# Altium schematic symbol library SCH - MCU - ATSAM - MICROCHIP ATSAMA5D28C-CN LFBGA289.SchLib: 1 symbol
Pins are listed as number, name and electrical type; pins without a type are passive.

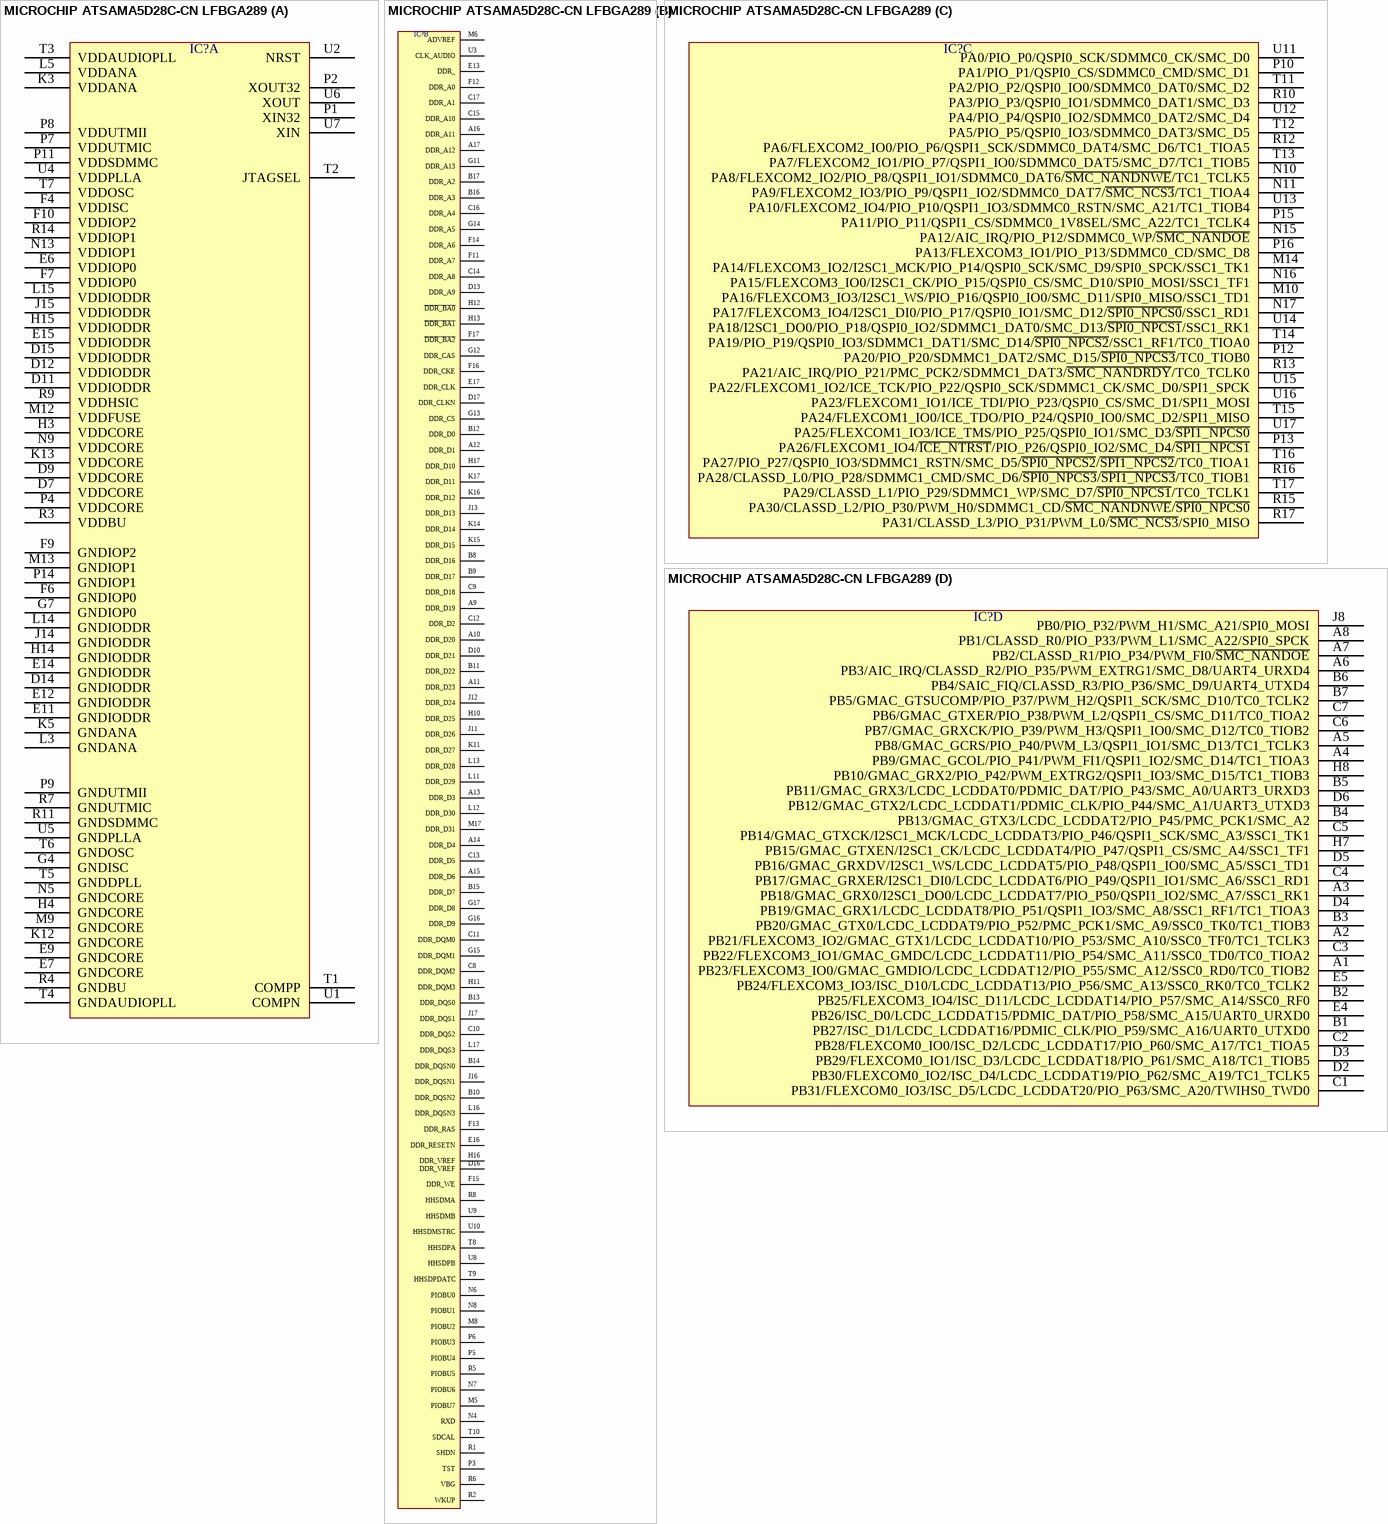
[diagram p0: symbol MICROCHIP ATSAMA5D28C-CN LFBGA289]

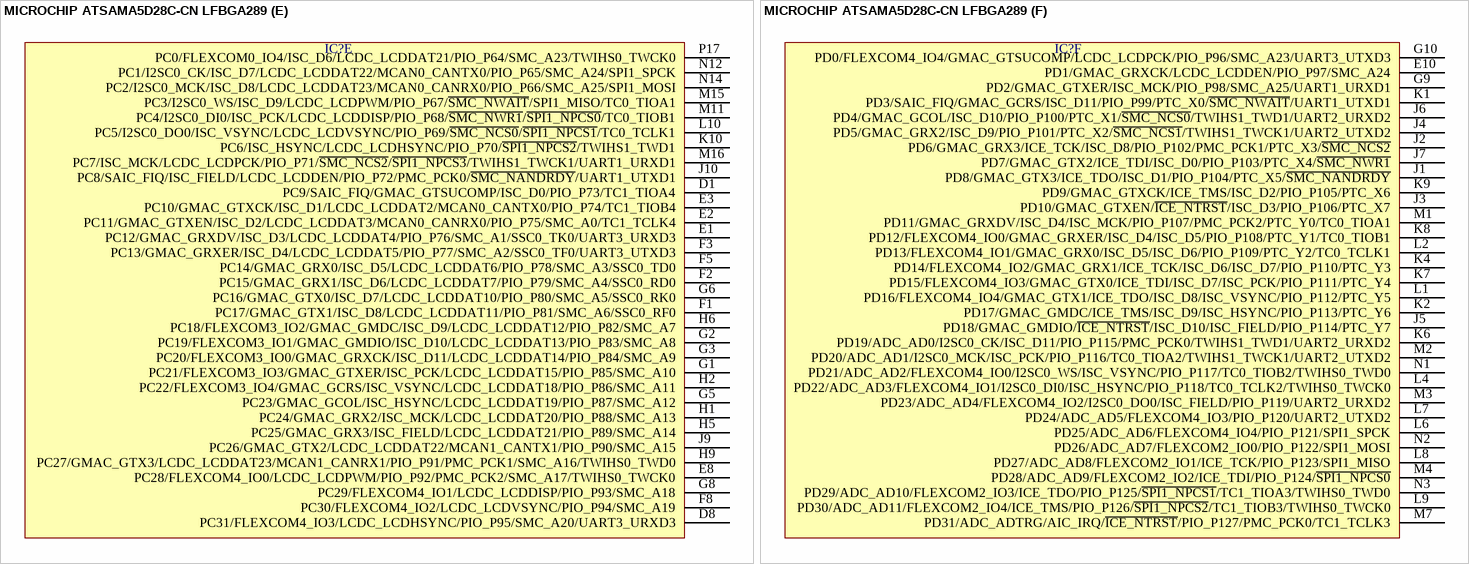
[diagram p1: symbol MICROCHIP ATSAMA5D28C-CN LFBGA289]

## MICROCHIP ATSAMA5D28C-CN LFBGA289
designator IC?  (value not drawn)
part A pins: D7 VDDCORE, D9 VDDCORE, D11 VDDIODDR, D12 VDDIODDR, D14 GNDIODDR, D15 VDDIODDR, E6 VDDIOP0, E7 GNDCORE, E9 GNDCORE, E11 GNDIODDR, E12 GNDIODDR, E14 GNDIODDR, E15 VDDIODDR, F4 VDDISC, F6 GNDIOP0, F7 VDDIOP0, F9 GNDIOP2, F10 VDDIOP2, G4 GNDISC, G7 GNDIOP0, H3 VDDCORE, H4 GNDCORE, H14 GNDIODDR, H15 VDDIODDR, J14 GNDIODDR, J15 VDDIODDR, K3 VDDANA, K5 GNDANA, K12 GNDCORE, K13 VDDCORE, L3 GNDANA, L5 VDDANA, L14 GNDIODDR, L15 VDDIODDR, M9 GNDCORE, M12 VDDFUSE, M13 GNDIOP1, N5 GNDCORE, N9 VDDCORE, N13 VDDIOP1, P1 XIN32, P2 XOUT32, P4 VDDCORE, P7 VDDUTMIC, P8 VDDUTMII, P9 GNDUTMII, P11 VDDSDMMC, P14 GNDIOP1, R3 VDDBU, R4 GNDBU, R7 GNDUTMIC, R9 VDDHSIC, R11 GNDSDMMC, R14 VDDIOP1, T1 COMPP, T2 JTAGSEL, T3 VDDAUDIOPLL, T4 GNDAUDIOPLL, T5 GNDDPLL, T6 GNDOSC, T7 VDDOSC, U1 COMPN, U2 NRST, U4 VDDPLLA, U5 GNDPLLA, U6 XOUT, U7 XIN
part B pins: A9 DDR_D19, A10 DDR_D20, A11 DDR_D23, A12 DDR_D1, A13 DDR_D3, A14 DDR_D4, A15 DDR_D6, A16 DDR_A11, A17 DDR_A12, B8 DDR_D16, B9 DDR_D17, B10 DDR_DQSN2, B11 DDR_D22, B12 DDR_D0, B13 DDR_DQS0, B14 DDR_DQSN0, B15 DDR_D7, B16 DDR_A3, B17 DDR_A2, C8 DDR_DQM2, C9 DDR_D18, C10 DDR_DQS2, C11 DDR_DQM0, C12 DDR_D2, C13 DDR_D5, C14 DDR_A8, C15 DDR_A10, C16 DDR_A4, C17 DDR_A1, D10 DDR_D21, D13 DDR_A9, D16 DDR_VREF, D17 DDR_CLKN, E13 DDR_, E16 DDR_RESETN, E17 DDR_CLK, F11 DDR_A7, F12 DDR_A0, F13 DDR_RAS, F14 DDR_A6, F15 DDR_WE, F16 DDR_CKE, F17 ~{DDR_BA2}, G11 DDR_A13, G12 DDR_CAS, G13 DDR_CS, G14 DDR_A5, G15 DDR_DQM1, G16 DDR_D9, G17 DDR_D8, H10 DDR_D25, H11 DDR_DQM3, H12 ~{DDR_BA0}, H13 ~{DDR_BA1}, H16 DDR_VREF, H17 DDR_D10, J11 DDR_D26, J12 DDR_D24, J13 DDR_D13, J16 DDR_DQSN1, J17 DDR_DQS1, K11 DDR_D27, K14 DDR_D14, K15 DDR_D15, K16 DDR_D12, K17 DDR_D11, L11 DDR_D29, L12 DDR_D30, L13 DDR_D28, L16 DDR_DQSN3, L17 DDR_DQS3, M5 PIOBU7, M6 ADVREF, M8 PIOBU2, M17 DDR_D31, N4 RXD, N6 PIOBU0, N7 PIOBU6, N8 PIOBU1, P3 TST, P5 PIOBU4, P6 PIOBU3, R1 SHDN, R2 WKUP, R5 PIOBU5, R6 VBG, R8 HHSDMA, T8 HHSDPA, T9 HHSDPDATC, T10 SDCAL, U3 CLK_AUDIO, U8 HHSDPB, U9 HHSDMB, U10 HHSDMSTRC
part C pins: M10 PA16/FLEXCOM3_IO3/I2SC1_WS/PIO_P16/QSPI0_IO0/SMC_D11/SPI0_MISO/SSC1_TD1, M14 PA14/FLEXCOM3_IO2/I2SC1_MCK/PIO_P14/QSPI0_SCK/SMC_D9/SPI0_SPCK/SSC1_TK1, N10 PA8/FLEXCOM2_IO2/PIO_P8/QSPI1_IO1/SDMMC0_DAT6/~{SMC_NANDNWE}/TC1_TCLK5, N11 PA9/FLEXCOM2_IO3/PIO_P9/QSPI1_IO2/SDMMC0_DAT7/~{SMC_NCS3}/TC1_TIOA4, N15 PA12/AIC_IRQ/PIO_P12/SDMMC0_WP/~{SMC_NANDOE}, N16 PA15/FLEXCOM3_IO0/I2SC1_CK/PIO_P15/QSPI0_CS/SMC_D10/SPI0_MOSI/SSC1_TF1, N17 PA17/FLEXCOM3_IO4/I2SC1_DI0/PIO_P17/QSPI0_IO1/SMC_D12/~{SPI0_NPCS0}/SSC1_RD1, P10 PA1/PIO_P1/QSPI0_CS/SDMMC0_CMD/SMC_D1, P12 PA20/PIO_P20/SDMMC1_DAT2/SMC_D15/~{SPI0_NPCS3}/TC0_TIOB0, P13 PA26/FLEXCOM1_IO4/~{ICE_NTRST}/PIO_P26/QSPI0_IO2/SMC_D4/~{SPI1_NPCS1}, P15 PA11/PIO_P11/QSPI1_CS/SDMMC0_1V8SEL/SMC_A22/TC1_TCLK4, P16 PA13/FLEXCOM3_IO1/PIO_P13/SDMMC0_CD/SMC_D8, R10 PA3/PIO_P3/QSPI0_IO1/SDMMC0_DAT1/SMC_D3, R12 PA6/FLEXCOM2_IO0/PIO_P6/QSPI1_SCK/SDMMC0_DAT4/SMC_D6/TC1_TIOA5, R13 PA21/AIC_IRQ/PIO_P21/PMC_PCK2/SDMMC1_DAT3/~{SMC_NANDRDY}/TC0_TCLK0, R15 PA30/CLASSD_L2/PIO_P30/PWM_H0/SDMMC1_CD/~{SMC_NANDNWE}/~{SPI0_NPCS0}, R16 PA28/CLASSD_L0/PIO_P28/SDMMC1_CMD/SMC_D6/~{SPI0_NPCS3}/~{SPI1_NPCS3}/TC0_TIOB1, R17 PA31/CLASSD_L3/PIO_P31/PWM_L0/~{SMC_NCS3}/SPI0_MISO, T11 PA2/PIO_P2/QSPI0_IO0/SDMMC0_DAT0/SMC_D2, T12 PA5/PIO_P5/QSPI0_IO3/SDMMC0_DAT3/SMC_D5, T13 PA7/FLEXCOM2_IO1/PIO_P7/QSPI1_IO0/SDMMC0_DAT5/SMC_D7/TC1_TIOB5, T14 PA19/PIO_P19/QSPI0_IO3/SDMMC1_DAT1/SMC_D14/~{SPI0_NPCS2}/SSC1_RF1/TC0_TIOA0, T15 PA24/FLEXCOM1_IO0/ICE_TDO/PIO_P24/QSPI0_IO0/SMC_D2/SPI1_MISO, T16 PA27/PIO_P27/QSPI0_IO3/SDMMC1_RSTN/SMC_D5/~{SPI0_NPCS2}/~{SPI1_NPCS2}/TC0_TIOA1, T17 PA29/CLASSD_L1/PIO_P29/SDMMC1_WP/SMC_D7/~{SPI0_NPCS1}/TC0_TCLK1, U11 PA0/PIO_P0/QSPI0_SCK/SDMMC0_CK/SMC_D0, U12 PA4/PIO_P4/QSPI0_IO2/SDMMC0_DAT2/SMC_D4, U13 PA10/FLEXCOM2_IO4/PIO_P10/QSPI1_IO3/SDMMC0_RSTN/SMC_A21/TC1_TIOB4, U14 PA18/I2SC1_DO0/PIO_P18/QSPI0_IO2/SDMMC1_DAT0/SMC_D13/~{SPI0_NPCS1}/SSC1_RK1, U15 PA22/FLEXCOM1_IO2/ICE_TCK/PIO_P22/QSPI0_SCK/SDMMC1_CK/SMC_D0/SPI1_SPCK, U16 PA23/FLEXCOM1_IO1/ICE_TDI/PIO_P23/QSPI0_CS/SMC_D1/SPI1_MOSI, U17 PA25/FLEXCOM1_IO3/ICE_TMS/PIO_P25/QSPI0_IO1/SMC_D3/~{SPI1_NPCS0}
part D pins: A1 PB23/FLEXCOM3_IO0/GMAC_GMDIO/LCDC_LCDDAT12/PIO_P55/SMC_A12/SSC0_RD0/TC0_TIOB2, A2 PB21/FLEXCOM3_IO2/GMAC_GTX1/LCDC_LCDDAT10/PIO_P53/SMC_A10/SSC0_TF0/TC1_TCLK3, A3 PB18/GMAC_GRX0/I2SC1_DO0/LCDC_LCDDAT7/PIO_P50/QSPI1_IO2/SMC_A7/SSC1_RK1, A4 PB9/GMAC_GCOL/PIO_P41/PWM_FI1/QSPI1_IO2/SMC_D14/TC1_TIOA3, A5 PB8/GMAC_GCRS/PIO_P40/PWM_L3/QSPI1_IO1/SMC_D13/TC1_TCLK3, A6 PB3/AIC_IRQ/CLASSD_R2/PIO_P35/PWM_EXTRG1/SMC_D8/UART4_URXD4, A7 PB2/CLASSD_R1/PIO_P34/PWM_FI0/~{SMC_NANDOE}, A8 PB1/CLASSD_R0/PIO_P33/PWM_L1/SMC_A22/SPI0_SPCK, B1 PB27/ISC_D1/LCDC_LCDDAT16/PDMIC_CLK/PIO_P59/SMC_A16/UART0_UTXD0, B2 PB25/FLEXCOM3_IO4/ISC_D11/LCDC_LCDDAT14/PIO_P57/SMC_A14/SSC0_RF0, B3 PB20/GMAC_GTX0/LCDC_LCDDAT9/PIO_P52/PMC_PCK1/SMC_A9/SSC0_TK0/TC1_TIOB3, B4 PB13/GMAC_GTX3/LCDC_LCDDAT2/PIO_P45/PMC_PCK1/SMC_A2, B5 PB11/GMAC_GRX3/LCDC_LCDDAT0/PDMIC_DAT/PIO_P43/SMC_A0/UART3_URXD3, B6 PB4/SAIC_FIQ/CLASSD_R3/PIO_P36/SMC_D9/UART4_UTXD4, B7 PB5/GMAC_GTSUCOMP/PIO_P37/PWM_H2/QSPI1_SCK/SMC_D10/TC0_TCLK2, C1 PB31/FLEXCOM0_IO3/ISC_D5/LCDC_LCDDAT20/PIO_P63/SMC_A20/TWIHS0_TWD0, C2 PB28/FLEXCOM0_IO0/ISC_D2/LCDC_LCDDAT17/PIO_P60/SMC_A17/TC1_TIOA5, C3 PB22/FLEXCOM3_IO1/GMAC_GMDC/LCDC_LCDDAT11/PIO_P54/SMC_A11/SSC0_TD0/TC0_TIOA2, C4 PB17/GMAC_GRXER/I2SC1_DI0/LCDC_LCDDAT6/PIO_P49/QSPI1_IO1/SMC_A6/SSC1_RD1, C5 PB14/GMAC_GTXCK/I2SC1_MCK/LCDC_LCDDAT3/PIO_P46/QSPI1_SCK/SMC_A3/SSC1_TK1, C6 PB7/GMAC_GRXCK/PIO_P39/PWM_H3/QSPI1_IO0/SMC_D12/TC0_TIOB2, C7 PB6/GMAC_GTXER/PIO_P38/PWM_L2/QSPI1_CS/SMC_D11/TC0_TIOA2, D2 PB30/FLEXCOM0_IO2/ISC_D4/LCDC_LCDDAT19/PIO_P62/SMC_A19/TC1_TCLK5, D3 PB29/FLEXCOM0_IO1/ISC_D3/LCDC_LCDDAT18/PIO_P61/SMC_A18/TC1_TIOB5, D4 PB19/GMAC_GRX1/LCDC_LCDDAT8/PIO_P51/QSPI1_IO3/SMC_A8/SSC1_RF1/TC1_TIOA3, D5 PB16/GMAC_GRXDV/I2SC1_WS/LCDC_LCDDAT5/PIO_P48/QSPI1_IO0/SMC_A5/SSC1_TD1, D6 PB12/GMAC_GTX2/LCDC_LCDDAT1/PDMIC_CLK/PIO_P44/SMC_A1/UART3_UTXD3, E4 PB26/ISC_D0/LCDC_LCDDAT15/PDMIC_DAT/PIO_P58/SMC_A15/UART0_URXD0, E5 PB24/FLEXCOM3_IO3/ISC_D10/LCDC_LCDDAT13/PIO_P56/SMC_A13/SSC0_RK0/TC0_TCLK2, H7 PB15/GMAC_GTXEN/I2SC1_CK/LCDC_LCDDAT4/PIO_P47/QSPI1_CS/SMC_A4/SSC1_TF1, H8 PB10/GMAC_GRX2/PIO_P42/PWM_EXTRG2/QSPI1_IO3/SMC_D15/TC1_TIOB3, J8 PB0/PIO_P32/PWM_H1/SMC_A21/SPI0_MOSI
part E pins: D1 PC9/SAIC_FIQ/GMAC_GTSUCOMP/ISC_D0/PIO_P73/TC1_TIOA4, D8 PC31/FLEXCOM4_IO3/LCDC_LCDHSYNC/PIO_P95/SMC_A20/UART3_URXD3, E1 PC12/GMAC_GRXDV/ISC_D3/LCDC_LCDDAT4/PIO_P76/SMC_A1/SSC0_TK0/UART3_URXD3, E2 PC11/GMAC_GTXEN/ISC_D2/LCDC_LCDDAT3/MCAN0_CANRX0/PIO_P75/SMC_A0/TC1_TCLK4, E3 PC10/GMAC_GTXCK/ISC_D1/LCDC_LCDDAT2/MCAN0_CANTX0/PIO_P74/TC1_TIOB4, E8 PC28/FLEXCOM4_IO0/LCDC_LCDPWM/PIO_P92/PMC_PCK2/SMC_A17/TWIHS0_TWCK0, F1 PC17/GMAC_GTX1/ISC_D8/LCDC_LCDDAT11/PIO_P81/SMC_A6/SSC0_RF0, F2 PC15/GMAC_GRX1/ISC_D6/LCDC_LCDDAT7/PIO_P79/SMC_A4/SSC0_RD0, F3 PC13/GMAC_GRXER/ISC_D4/LCDC_LCDDAT5/PIO_P77/SMC_A2/SSC0_TF0/UART3_UTXD3, F5 PC14/GMAC_GRX0/ISC_D5/LCDC_LCDDAT6/PIO_P78/SMC_A3/SSC0_TD0, F8 PC30/FLEXCOM4_IO2/LCDC_LCDVSYNC/PIO_P94/SMC_A19, G1 PC21/FLEXCOM3_IO3/GMAC_GTXER/ISC_PCK/LCDC_LCDDAT15/PIO_P85/SMC_A10, G2 PC19/FLEXCOM3_IO1/GMAC_GMDIO/ISC_D10/LCDC_LCDDAT13/PIO_P83/SMC_A8, G3 PC20/FLEXCOM3_IO0/GMAC_GRXCK/ISC_D11/LCDC_LCDDAT14/PIO_P84/SMC_A9, G5 PC23/GMAC_GCOL/ISC_HSYNC/LCDC_LCDDAT19/PIO_P87/SMC_A12, G6 PC16/GMAC_GTX0/ISC_D7/LCDC_LCDDAT10/PIO_P80/SMC_A5/SSC0_RK0, G8 PC29/FLEXCOM4_IO1/LCDC_LCDDISP/PIO_P93/SMC_A18, H1 PC24/GMAC_GRX2/ISC_MCK/LCDC_LCDDAT20/PIO_P88/SMC_A13, H2 PC22/FLEXCOM3_IO4/GMAC_GCRS/ISC_VSYNC/LCDC_LCDDAT18/PIO_P86/SMC_A11, H5 PC25/GMAC_GRX3/ISC_FIELD/LCDC_LCDDAT21/PIO_P89/SMC_A14, H6 PC18/FLEXCOM3_IO2/GMAC_GMDC/ISC_D9/LCDC_LCDDAT12/PIO_P82/SMC_A7, H9 PC27/GMAC_GTX3/LCDC_LCDDAT23/MCAN1_CANRX1/PIO_P91/PMC_PCK1/SMC_A16/TWIHS0_TWD0, J9 PC26/GMAC_GTX2/LCDC_LCDDAT22/MCAN1_CANTX1/PIO_P90/SMC_A15, J10 PC8/SAIC_FIQ/ISC_FIELD/LCDC_LCDDEN/PIO_P72/PMC_PCK0/~{SMC_NANDRDY}/UART1_UTXD1, K10 PC6/ISC_HSYNC/LCDC_LCDHSYNC/PIO_P70/~{SPI1_NPCS2}/TWIHS1_TWD1, L10 PC5/I2SC0_DO0/ISC_VSYNC/LCDC_LCDVSYNC/PIO_P69/~{SMC_NCS0}/~{SPI1_NPCS1}/TC0_TCLK1, M11 PC4/I2SC0_DI0/ISC_PCK/LCDC_LCDDISP/PIO_P68/~{SMC_NWR1}/~{SPI1_NPCS0}/TC0_TIOB1, M15 PC3/I2SC0_WS/ISC_D9/LCDC_LCDPWM/PIO_P67/~{SMC_NWAIT}/SPI1_MISO/TC0_TIOA1, M16 PC7/ISC_MCK/LCDC_LCDPCK/PIO_P71/~{SMC_NCS2}/~{SPI1_NPCS3}/TWIHS1_TWCK1/UART1_URXD1, N12 PC1/I2SC0_CK/ISC_D7/LCDC_LCDDAT22/MCAN0_CANTX0/PIO_P65/SMC_A24/SPI1_SPCK, N14 PC2/I2SC0_MCK/ISC_D8/LCDC_LCDDAT23/MCAN0_CANRX0/PIO_P66/SMC_A25/SPI1_MOSI, P17 PC0/FLEXCOM0_IO4/ISC_D6/LCDC_LCDDAT21/PIO_P64/SMC_A23/TWIHS0_TWCK0
part F pins: E10 PD1/GMAC_GRXCK/LCDC_LCDDEN/PIO_P97/SMC_A24, G9 PD2/GMAC_GTXER/ISC_MCK/PIO_P98/SMC_A25/UART1_URXD1, G10 PD0/FLEXCOM4_IO4/GMAC_GTSUCOMP/LCDC_LCDPCK/PIO_P96/SMC_A23/UART3_UTXD3, J1 PD8/GMAC_GTX3/ICE_TDO/ISC_D1/PIO_P104/PTC_X5/~{SMC_NANDRDY}, J2 PD6/GMAC_GRX3/ICE_TCK/ISC_D8/PIO_P102/PMC_PCK1/PTC_X3/~{SMC_NCS2}, J3 PD10/GMAC_GTXEN/~{ICE_NTRST}/ISC_D3/PIO_P106/PTC_X7, J4 PD5/GMAC_GRX2/ISC_D9/PIO_P101/PTC_X2/~{SMC_NCS1}/TWIHS1_TWCK1/UART2_UTXD2, J5 PD18/GMAC_GMDIO/~{ICE_NTRST}/ISC_D10/ISC_FIELD/PIO_P114/PTC_Y7, J6 PD4/GMAC_GCOL/ISC_D10/PIO_P100/PTC_X1/~{SMC_NCS0}/TWIHS1_TWD1/UART2_URXD2, J7 PD7/GMAC_GTX2/ICE_TDI/ISC_D0/PIO_P103/PTC_X4/~{SMC_NWR1}, K1 PD3/SAIC_FIQ/GMAC_GCRS/ISC_D11/PIO_P99/PTC_X0/~{SMC_NWAIT}/UART1_UTXD1, K2 PD17/GMAC_GMDC/ICE_TMS/ISC_D9/ISC_HSYNC/PIO_P113/PTC_Y6, K4 PD14/FLEXCOM4_IO2/GMAC_GRX1/ICE_TCK/ISC_D6/ISC_D7/PIO_P110/PTC_Y3, K6 PD19/ADC_AD0/I2SC0_CK/ISC_D11/PIO_P115/PMC_PCK0/TWIHS1_TWD1/UART2_URXD2, K7 PD15/FLEXCOM4_IO3/GMAC_GTX0/ICE_TDI/ISC_D7/ISC_PCK/PIO_P111/PTC_Y4, K8 PD12/FLEXCOM4_IO0/GMAC_GRXER/ISC_D4/ISC_D5/PIO_P108/PTC_Y1/TC0_TIOB1, K9 PD9/GMAC_GTXCK/ICE_TMS/ISC_D2/PIO_P105/PTC_X6, L1 PD16/FLEXCOM4_IO4/GMAC_GTX1/ICE_TDO/ISC_D8/ISC_VSYNC/PIO_P112/PTC_Y5, L2 PD13/FLEXCOM4_IO1/GMAC_GRX0/ISC_D5/ISC_D6/PIO_P109/PTC_Y2/TC0_TCLK1, L4 PD22/ADC_AD3/FLEXCOM4_IO1/I2SC0_DI0/ISC_HSYNC/PIO_P118/TC0_TCLK2/TWIHS0_TWCK0, L6 PD25/ADC_AD6/FLEXCOM4_IO4/PIO_P121/SPI1_SPCK, L7 PD24/ADC_AD5/FLEXCOM4_IO3/PIO_P120/UART2_UTXD2, L8 PD27/ADC_AD8/FLEXCOM2_IO1/ICE_TCK/PIO_P123/SPI1_MISO, L9 PD30/ADC_AD11/FLEXCOM2_IO4/ICE_TMS/PIO_P126/~{SPI1_NPCS2}/TC1_TIOB3/TWIHS0_TWCK0, M1 PD11/GMAC_GRXDV/ISC_D4/ISC_MCK/PIO_P107/PMC_PCK2/PTC_Y0/TC0_TIOA1, M2 PD20/ADC_AD1/I2SC0_MCK/ISC_PCK/PIO_P116/TC0_TIOA2/TWIHS1_TWCK1/UART2_UTXD2, M3 PD23/ADC_AD4/FLEXCOM4_IO2/I2SC0_DO0/ISC_FIELD/PIO_P119/UART2_URXD2, M4 PD28/ADC_AD9/FLEXCOM2_IO2/ICE_TDI/PIO_P124/~{SPI1_NPCS0}, M7 PD31/ADC_ADTRG/AIC_IRQ/~{ICE_NTRST}/PIO_P127/PMC_PCK0/TC1_TCLK3, N1 PD21/ADC_AD2/FLEXCOM4_IO0/I2SC0_WS/ISC_VSYNC/PIO_P117/TC0_TIOB2/TWIHS0_TWD0, N2 PD26/ADC_AD7/FLEXCOM2_IO0/PIO_P122/SPI1_MOSI, N3 PD29/ADC_AD10/FLEXCOM2_IO3/ICE_TDO/PIO_P125/~{SPI1_NPCS1}/TC1_TIOA3/TWIHS0_TWD0